# Altium schematic symbol library 5V2A Flyback converter Schematic library.SchLib: 16 symbols
Pins are listed as number, name and electrical type; pins without a type are passive.

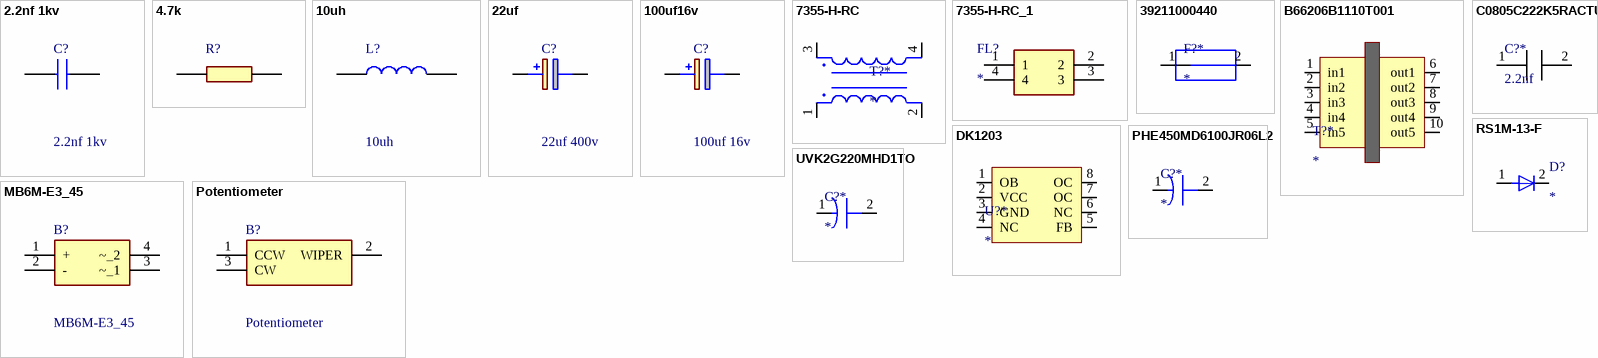
[diagram p0: symbols 2.2nf 1kv to UVK2G220MHD1TO]

## 2.2nf 1kv
designator C?
Disc Type Capacitors with Lead (High Voltage Ceramic Capacitors), Capacitance=2.2nF, DxT: 8.5x5mm ,F: 5mm; Manufacturer_Name: TDK; Manufacturer_Part_Number: CK45-B3AD222KYNNA; Geometry.Height: 12.5mm; Mouser Part Number: 810-CK45-B3AD222NNA; Mouser Price/Stock: https://www.mouser.co.uk/ProductDetail/TDK/CK45-B3AD222KYNNA?qs=2FIyTMJ0hNk3eTUvPTIP4A%3D%3D; Arrow Part Number: CK45-B3AD222KYNNA; Arrow Price/Stock: https://www.arrow.com/en/products/ck45-b3ad222kynna/tdk?utm_currency=USD&region=nac; Datasheet Link: https://product.tdk.com/system/files/dam/doc/product/capacitor/ceramic/lead-disc/catalog/leaddisc_commercial_ck45_en.pdf
footprint CK45B3AD222KYNNA
pins: 1, 2

## 4.7k
designator R?, comment CRCW12064K70FKEA  (value not drawn)
CRCW1206 Resistor T/R 0.25W,1%,4K7 Vishay CRCW Series Thick Film Surface Mount Resistor 1206 Case 4.7k; Geometry.Height: 0.6mm; Manufacturer_Name: Vishay; Manufacturer_Part_Number: CRCW12064K70FKEA; Mouser Part Number: 71-CRCW1206-4.7K-E3; Mouser Price/Stock: https://www.mouser.co.uk/ProductDetail/Vishay-Dale/CRCW12064K70FKEA?qs=1vm4qhDHCvlKJmatsKzyFQ%3D%3D; Arrow Part Number: CRCW12064K70FKEA; Arrow Price/Stock: https://www.arrow.com/en/products/crcw12064k70fkea/vishay; Datasheet Link: https://datasheet.datasheetarchive.com/originals/distributors/DKDS-23/452928.pdf
footprint 4.7k
pins: 1, 2

## 10uh
designator L?
Vishay IHLP2020BZ-01 Series Shielded Wire-wound SMD Inductor 10 uH +/-20% 4A Idc; Manufacturer_Part_Number: IHLP2020BZER100M01; Geometry.Height: 2mm; Manufacturer_Name: Vishay; Mouser Part Number: 70-IHLP2020BZER100M0; Mouser Price/Stock: https://www.mouser.co.uk/ProductDetail/Vishay-Dale/IHLP2020BZER100M01?qs=ZAjGDd5n2aH5Lxf04Dpbtg%3D%3D; Arrow Part Number: IHLP2020BZER100M01; Arrow Price/Stock: https://www.arrow.com/en/products/ihlp2020bzer100m01/vishay?region=europe; Datasheet Link: https://datasheet.datasheetarchive.com/originals/distributors/Datasheets-DGA11/2193762.pdf
footprint INDPM5552X200N
pins: 1, 2

## 22uf
designator C?, comment 22uf 400v
Aluminium Electrolytic Capacitors - Radial Leaded Al Lytic Cap Radial NHG Series 105C; Manufacturer_Name: Panasonic; Manufacturer_Part_Number: ECA-2GHG220; Geometry.Height: 27mm; Mouser Part Number: 667-ECA-2GHG220; Mouser Price/Stock: https://www.mouser.co.uk/ProductDetail/Panasonic/ECA-2GHG220?qs=ScpEy4ykWJx1iqxOLURymA%3D%3D; Arrow Part Number: ECA-2GHG220; Arrow Price/Stock: https://www.arrow.com/en/products/eca-2ghg220/panasonic; Datasheet Link: http://industrial.panasonic.com/cdbs/www-data/pdf/RDF0000/ABA0000C1215.pdf
footprint CAPPRD500W65D1250H2700
pins: 1 +, 2 -

## 100uf16v
designator C?, comment 100uf 16v
Nichicon 100uF 16 V dc Polymer Aluminium Electrolytic Capacitor, PS Series 2000h 10 Dia. x 7.7mm; Manufacturer_Part_Number: RPS1C101MCN1GS; Geometry.Height: 11mm; Manufacturer_Name: Nichicon; Mouser Part Number: 647-RPS1C101MCN1GS; Mouser Price/Stock: https://www.mouser.co.uk/ProductDetail/Nichicon/RPS1C101MCN1GS?qs=eL6fcoQH66MLvHfa%252BDZQ0A%3D%3D; Arrow Part Number: RPS1C101MCN1GS; Arrow Price/Stock: https://www.arrow.com/en/products/rps1c101mcn1gs/nichicon?region=nac; Datasheet Link: https://www.arrow.com/en/products/rps1c101mcn1gs/nichicon?region=nac
footprint CAPAE1030X1100N
pins: 1 +, 2 -

## 7355-H-RC
designator T?*
Ind Common Mode Wirewound 10mH 1KHz 350mA Pin; Manufacturer: Bourns; Manufacturer Part Number: 7355-H-RC; Number of Lines: 2; Supplier: Mouser; Supplier Part Number: 542-7355H-RC; RoHS: Yes; Category: Fixed Inductors; Stock: 280; Pricing: 1=2.95, 10=2.47, 50=2.47, 100=1.93, 1000=1.53, 10000=1.53 (USD); Mounting Technology: Through Hole; Min Operating Temperature: -55°C; Max Operating Temperature: 105°C; Packaging: Bulk; Value: 10mH; Max DC Current: 350mA; Test Frequency: 1kHz; Series: 7300; Max Current Rating: 350mA; Length: 17mm; Height: 12mm; Lead Pitch: 8mm; Depth: 15.5mm; RoHS Compliant: Yes; ComponentLink1URL: https://datasheet.ciiva.com/29519/7300-series-29519673.pdf?src-supplier=Digikey; ComponentLink1Description: https://datasheet.ciiva.com/29519/7300-series-29519673.pdf?src-supplier=Digikey
footprint 7355-H-RC
pins: 1, 2, 3, 4

## 7355-H-RC_1
designator FL?
Filter; Manufacturer_Name: Bourns; Manufacturer_Part_Number: 7355-H-RC; Description: Common Mode Inductors/EMI Filters; Datasheet Link: https://www.bourns.com/docs/Product-Datasheets/7300_series.pdf; Height: 12mm
footprint 7355HRC
pins: 1, 2, 3, 4

## 39211000440
designator F?*
Fuse Subminiature Slow Blow Acting 1.1A 250V Radial 8.5 X 4 X 8mm Thermoplastic Bulk; Manufacturer: Littelfuse Wickmann; Manufacturer Part Number: 39211000440; Supplier: Digikey; Supplier Part Number: F4534-ND; RoHS: Yes; Category: Fuses; Stock: 1396; Pricing: 1=0.43, 5=0.36, 10=0.331, 50=0.2748, 100=0.2535, 250=0.22792, 500=0.21026, 1400=0.18639, 5600=0.15824 (USD); ComponentLink1URL: https://datasheet.ciiva.com/7463/ltitelfuse-fuse-392-7463242.pdf?src-supplier=Digikey; ComponentLink1Description: https://datasheet.ciiva.com/7463/ltitelfuse-fuse-392-7463242.pdf?src-supplier=Digikey; ComponentLink2URL: https://datasheet.ciiva.com/8078/ltitelfuse-fuse-392-8078439.pdf?src-supplier=Element14; ComponentLink2Description: https://datasheet.ciiva.com/8078/ltitelfuse-fuse-392-8078439.pdf?src-supplier=Element14; ComponentLink3URL: https://datasheet.ciiva.com/4483/ltitelfuse-fuse-392-42681-4483166.pdf?src-supplier=Mouser; ComponentLink3Description: https://datasheet.ciiva.com/4483/ltitelfuse-fuse-392-42681-4483166.pdf?src-supplier=Mouser
footprint Littelfuse 39211000440
pins: 1, 2

## B66206B1110T001
designator T?*
Ferrite Accessories, Planar Cores Accessories(E/ELP), Coil former (E 20/10/6); Manufacturer: TDK EPCOS; Manufacturer Part Number: B66206B1110T001; Lead Diameter: 450um; Supplier: Digikey; Supplier Part Number: 495-5365-ND; RoHS: Yes; Category: EMI / RFI Components; Stock: 1221; Pricing: 1=1.95, 10=1.341, 25=1.1464, 50=1.0128, 100=0.8897, 250=0.78212 (USD); Packaging: 14Packaging; Termination: 4753ConnectorType; Lead Pitch: 3.81mm; ComponentLink1URL: https://datasheet.ciiva.com/1375/1756165-1375209.pdf?src-supplier=Element14; ComponentLink1Description: https://datasheet.ciiva.com/1375/1756165-1375209.pdf?src-supplier=Element14; ComponentLink2URL: https://datasheet.ciiva.com/18504/e-20-10-6-18504329.pdf?src-supplier=Digikey; ComponentLink2Description: https://datasheet.ciiva.com/18504/e-20-10-6-18504329.pdf?src-supplier=Digikey
footprint PCBComponent_1 - duplicate
pins: 1 in1, 2 in2, 3 in3, 4 in4, 5 in5, 6 out1, 7 out2, 8 out3, 9 out4, 10 out5

## C0805C222K5RACTU
designator C?*, comment 2.2nf
Multilayer Ceramic Capacitor, 2200 pF, 50 V, ï¿½ 10%, X7R, 0805 [2012 Metric]; Manufacturer: KEMET; Manufacturer Part Number: C0805C222K5RACTU; Voltage Rating (DC): 50V; Dissipation Factor: 2.5%; Temperature Coefficient: 30ppm/°C; Supplier: Mouser; Supplier Part Number: 80-C0805C222K5R; RoHS: Yes; Category: Ceramic Capacitors; Stock: 82154; Pricing: 1=0.1, 10=0.024, 50=0.024, 100=0.015, 1000=0.012, 10000=0.006 (USD); Mounting Technology: Surface Mount,PCB; Case/Package: 0805; Pins: 2; Dielectric Material: Ceramic; Case Code (Imperial): 0805; Case Code (Metric): 2012; Material: Ceramic; Min Operating Temperature: -55°C; Max Operating Temperature: 125°C; Tolerance: 10%; Packaging: Tape and Reel; Value: 2.2nF; Dielectric: X7R; Voltage: 50V; Package Quantity: 4000; Series: SMD Comm X7R; Voltage Rating: 50V; Termination: SMD/SMT; Construction: Flat; Voltage Rating (AC): 50V; Length: 2mm; Width: 1.2mm; Height: 0.78mm; Depth: 1.25mm; Lead Pitch: 0.75mm; Radiation Hardening: No; Reach SVHC Compliant: No; RoHS Compliant: Yes; Lead Free: Lead Free; ComponentLink1URL: https://datasheet.ciiva.com/28584/kem-c1002-x7r-smd-28584143.pdf?src-supplier=Element14; ComponentLink1Description: https://datasheet.ciiva.com/28584/kem-c1002-x7r-smd-28584143.pdf?src-supplier=Element14; ComponentLink2URL: https://datasheet.ciiva.com/28692/1851736-28692973.pdf?src-supplier=Element14; ComponentLink2Description: https://datasheet.ciiva.com/28692/1851736-28692973.pdf?src-supplier=Element14
footprint 2.2nf - duplicate
pins: 1 0, 2

## DK1203
designator U?*
Manufacturer: ON Semiconductor; Manufacturer Part Number: NCP1203GEVB; Switching Frequency: 60kHz; Output Voltage: 19V; Output Current: 4A; Evaluation Kit: Yes; Supplier: Newark; Supplier Part Number: 73R4611; RoHS: Yes; Category: Embedded Processors and Controllers; Package Quantity: 1; ComponentLink1URL: https://datasheet.ciiva.com/2395/ncp1200-d-2395097.pdf?src-supplier=Digikey; ComponentLink1Description: https://datasheet.ciiva.com/2395/ncp1200-d-2395097.pdf?src-supplier=Digikey
footprint DK1203 - duplicate
pins: 1 OB, 2 VCC, 3 GND, 4 NC, 5 FB, 6 NC, 7 OC, 8 OC

## MB6M-E3_45
designator B?
Diode Rectifier Bridge Single 600V 0.8A Vishay MB6M-E3/45, Bridge Rectifier, 0.8A 600V, 4-Pin MBM; Geometry.Height: 2.7mm; Manufacturer_Name: Vishay; Manufacturer_Part_Number: MB6M-E3/45; Mouser Part Number: 625-MB6M-E3; Mouser Price/Stock: https://www.mouser.co.uk/ProductDetail/Vishay-General-Semiconductor/MB6M-E3-45?qs=NyKJzQ80QAzaNJrfLfHWPg%3D%3D; Arrow Part Number: MB6M-E3/45; Arrow Price/Stock: https://www.arrow.com/en/products/mb6m-e345/vishay?region=nac; Datasheet Link: http://www.vishay.com/docs/88660/mb2m.pdf
footprint DIP508W74P254L469H270Q4N
pins: 1 +, 2 -, 3 ~_1, 4 ~_2

## PHE450MD6100JR06L2
designator C?*
PHE450 100nF Polypropylene Film Capacitor 400 V ac, 630 V dc +/-5% | KEMET PHE450MD6100JR06L2; Supplier: Mouser; Supplier Part Number: 80-PHE450MD6100JR6L2; Manufacturer: KEMET; Manufacturer Part Number: PHE450MD6100JR06L2; RoHS: Yes; Category: Film Capacitors; Stock: 460; Pricing: 1=2.43, 10=1.87, 50=1.71, 100=1.42, 1000=1.14, 10000=0.931 (USD); ComponentLink1URL: https://datasheet.ciiva.com/11791/0900766b806bbee0-11791713.pdf?src-supplier=Rs; ComponentLink1Description: https://datasheet.ciiva.com/11791/0900766b806bbee0-11791713.pdf?src-supplier=Rs; ComponentLink2URL: https://datasheet.ciiva.com/14112/f3033-phe450-eng-tds-14112119.pdf?src-supplier=Distrelec; ComponentLink2Description: https://datasheet.ciiva.com/14112/f3033-phe450-eng-tds-14112119.pdf?src-supplier=Distrelec; ComponentLink3URL: https://datasheet.ciiva.com/18097/getdatasheetpartid-319545-18097930.pdf?src-supplier=Verical; ComponentLink3Description: https://datasheet.ciiva.com/18097/getdatasheetpartid-319545-18097930.pdf?src-supplier=Verical
footprint PHE450 100nF Polypropylene Film Capacitor 400 V ac, 630 V dc
pins: 1, 2

## Potentiometer
designator B?
Trimmer Resistors - Through Hole 3/8" 500Kohms Sealed Vertical Adjust; Manufacturer_Name: Bourns; Manufacturer_Part_Number: 3296Y-1-504LF; Geometry.Height: 10.28mm; Mouser Part Number: 652-3296Y-1-504LF; Mouser Price/Stock: https://www.mouser.co.uk/ProductDetail/Bourns/3296Y-1-504LF?qs=YcQ0SKcgwSr8aRG8Of3gNA%3D%3D; Arrow Part Number: 3296Y-1-504LF; Arrow Price/Stock: https://www.arrow.com/en/products/3296y-1-504lf/bourns?region=nac; Datasheet Link: https://componentsearchengine.com/Datasheets/2/3296Y-1-504LF.pdf
footprint 3296Y1504LF
pins: 1 CCW, 2 WIPER, 3 CW

## RS1M-13-F
designator D?
Rectifier Diode Switching 1KV 1A 500ns 2-Pin SMA T/R / DIODE GEN PURP 1KV 1A SMA; Manufacturer: Diodes; Manufacturer Part Number: RS1M-13-F; Max Reverse Current: 5uA; Max Surge Current: 30A; Forward Voltage: 1.3V; Polarity: Standard; Value: 15pF; Supplier: Future Electronics; Supplier Part Number: 9545039; RoHS: Yes; Category: Rectifier Diodes; Stock: 400000; Pricing: 5000=0.0396, 10000=0.0389, 15000=0.0385, 20000=0.0383, 25000=0.0374 (USD); Mounting Technology: Surface Mount; Case/Package: SMA; Pins: 2; Weight: 0.002258oz; Min Operating Temperature: -65°C; Max Operating Temperature: 150°C; Packaging: Tape and Reel; Forward Current: 1A; Package Quantity: 5000; Recovery Time: 500ns; Reverse Voltage (DC): 1kV; Average Rectified Current: 1A; Reverse Recovery Time: 500ns; Max Repetitive Reverse Voltage (Vrrm): 1kV; Peak Non-Repetitive Surge Current: 30A; Max Forward Surge Current (Ifsm): 30A; Voltage Rating (DC): 1kV; Current Rating: 1A; Output Current: 1A; Current: 1A; Voltage: 1kV; Max Reverse Voltage (DC): 1kV; Series: -; Reverse Recovery Time-Max: 500ns; Reverse Voltage: 1kV; Length: 4.6mm; Width: 2.92mm; Height: 2.1mm; Radiation Hardening: No; Reach SVHC Compliant: No; Lead Free: Lead Free; RoHS Compliant: Yes; ComponentLink1URL: https://datasheet.ciiva.com/22695/1911854-22695829.pdf?src-supplier=Element14; ComponentLink1Description: https://datasheet.ciiva.com/22695/1911854-22695829.pdf?src-supplier=Element14; ComponentLink2URL: https://datasheet.ciiva.com/8301/ds15002-8301719.pdf?src-supplier=Avnet; ComponentLink2Description: https://datasheet.ciiva.com/8301/ds15002-8301719.pdf?src-supplier=Avnet; ComponentLink3URL: https://datasheet.ciiva.com/15144/getdatasheetpartid-102368-15144828.pdf?src-supplier=Verical; ComponentLink3Description: https://datasheet.ciiva.com/15144/getdatasheetpartid-102368-15144828.pdf?src-supplier=Verical
footprint B360A-13-F
pins: 1, 2

## UVK2G220MHD1TO
designator C?*
Cap Alum 22UF 20% 400V Radial; Manufacturer: Nichicon; Manufacturer Part Number: UVK2G220MHD1TO; Ripple Current: 200mA; Supplier: Digikey; Supplier Part Number: 493-7460-1-ND; RoHS: Yes; Category: Aluminum Electrolytic Capacitors; Pricing: 1=1.38, 10=1.037, 50=0.9458, 100=0.7749 (USD); Mounting Technology: Through Hole; Case/Package: Radial; Min Operating Temperature: -40°C; Max Operating Temperature: 85°C; Package Quantity: 500; Value: 22uF; Voltage Rating: 400V; Tolerance: 20%; Packaging: Tape and Reel; Termination: Radial; Voltage Rating (DC): 400V; Series: UVK; Lead Pitch: 0.197inch; Height - Seated (Max): 1.063inch; RoHS Compliant: Yes; ComponentLink1URL: https://datasheet.ciiva.com/6316/e-vk-6316437.pdf?src-supplier=Digikey; ComponentLink1Description: https://datasheet.ciiva.com/6316/e-vk-6316437.pdf?src-supplier=Digikey; ComponentLink2URL: https://datasheet.ciiva.com/6316/e-vk-6316439.pdf?src-supplier=Digikey; ComponentLink2Description: https://datasheet.ciiva.com/6316/e-vk-6316439.pdf?src-supplier=Digikey
footprint 22 µF 400 V Aluminum Electrolytic Capacitors
pins: 1, 2